# Altium footprint library 3595.PcbLib: 1 footprints
Each footprint in its own frame and in the unit in brackets; x right, y up, seen from the top. Pads: shape width x height; smd on the part's side, far side on the other; paste and mask are expansions set on the pad; w line width, h text height; cw(c..) or ccw(c..) is an arc to the next point about the centre after c.
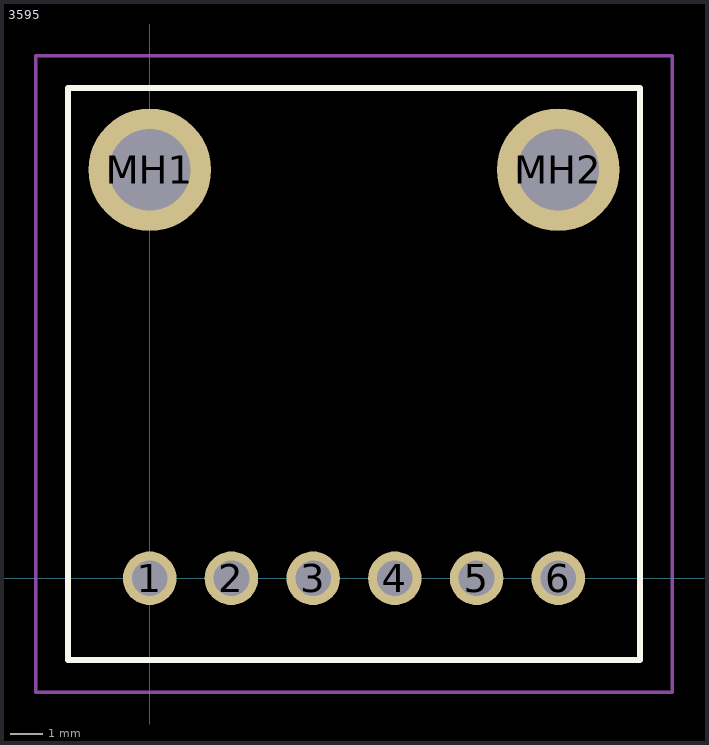
[diagram p0: the footprint, top view; thin cyan lines are the x and y axes]

## 3595 [mm]
pads (8):
  round 1.665 hole 1.11: 1(0,0) 2(2.54,0) 3(5.08,0) 4(7.62,0) 5(10.16,0) 6(12.7,0)
  round 3.81 hole 2.54: MH1(0,12.7) MH2(12.7,12.7)
Top Overlay:
  lines w0.2: -2.54,-2.54 15.24,-2.54 15.24,15.24 -2.54,15.24 -2.54,-2.54
Mechanical 15:
  lines w0.1: -2.54,-2.54 15.24,-2.54 15.24,15.24 -2.54,15.24 -2.54,-2.54
Mechanical 20:
  lines w0.1: -3.54,-3.54 16.24,-3.54 16.24,16.24 -3.54,16.24 -3.54,-3.54